# EAGLE library part ISP2064 (library lattice)
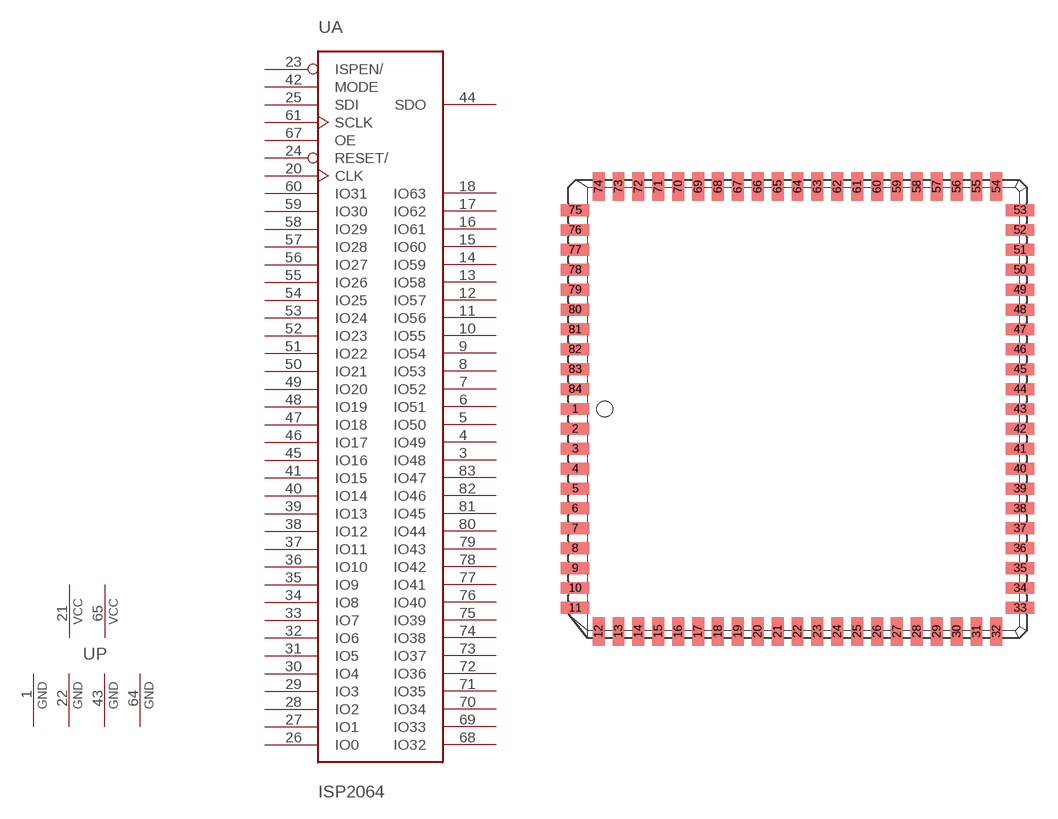
[diagram p2: symbol with the pads of PLCC-84; footprint PLCC-84]

Designator prefix U; gates A=ISP2064 P=2PWR4GND

## ISP2064  [PLCC-84]
1  P:GND  pwr
3  A:IO48
4  A:IO49
5  A:IO50
6  A:IO51
7  A:IO52
8  A:IO53
9  A:IO54
10  A:IO55
11  A:IO56
12  A:IO57
13  A:IO58
14  A:IO59
15  A:IO60
16  A:IO61
17  A:IO62
18  A:IO63
20  A:CLK  in
21  P:VCC  pwr
22  P:GND  pwr
23  A:ISPEN/  in
24  A:RESET/  in
25  A:SDI  in
26  A:IO0
27  A:IO1
28  A:IO2
29  A:IO3
30  A:IO4
31  A:IO5
32  A:IO6
33  A:IO7
34  A:IO8
35  A:IO9
36  A:IO10
37  A:IO11
38  A:IO12
39  A:IO13
40  A:IO14
41  A:IO15
42  A:MODE  in
43  P:GND  pwr
44  A:SDO  out
45  A:IO16
46  A:IO17
47  A:IO18
48  A:IO19
49  A:IO20
50  A:IO21
51  A:IO22
52  A:IO23
53  A:IO24
54  A:IO25
55  A:IO26
56  A:IO27
57  A:IO28
58  A:IO29
59  A:IO30
60  A:IO31
61  A:SCLK  in
64  P:GND  pwr
65  P:VCC  pwr
67  A:OE  in
68  A:IO32
69  A:IO33
70  A:IO34
71  A:IO35
72  A:IO36
73  A:IO37
74  A:IO38
75  A:IO39
76  A:IO40
77  A:IO41
78  A:IO42
79  A:IO43
80  A:IO44
81  A:IO45
82  A:IO46
83  A:IO47

## Footprint PLCC-84 (pad centres in mm)
smd 1.803 x 0.762: 1 -14.199,0; 2 -14.199,-1.27; 3 -14.199,-2.54; 4 -14.199,-3.81; 5 -14.199,-5.08; 6 -14.199,-6.35; 7 -14.199,-7.62; 8 -14.199,-8.89; 9 -14.199,-10.16; 10 -14.199,-11.43; 11 -14.199,-12.7; 33 14.199,-12.7; 34 14.199,-11.43; 35 14.199,-10.16; 36 14.199,-8.89; 37 14.199,-7.62; 38 14.199,-6.35; 39 14.199,-5.08; 40 14.199,-3.81; 41 14.199,-2.54; 42 14.199,-1.27; 43 14.199,0; 44 14.199,1.27; 45 14.199,2.54; 46 14.199,3.81; 47 14.199,5.08; 48 14.199,6.35; 49 14.199,7.62; 50 14.199,8.89; 51 14.199,10.16; 52 14.199,11.43; 53 14.199,12.7; 75 -14.199,12.7; 76 -14.199,11.43; 77 -14.199,10.16; 78 -14.199,8.89; 79 -14.199,7.62; 80 -14.199,6.35; 81 -14.199,5.08; 82 -14.199,3.81; 83 -14.199,2.54; 84 -14.199,1.27
smd 0.762 x 1.803: 12 -12.7,-14.199; 13 -11.43,-14.199; 14 -10.16,-14.199; 15 -8.89,-14.199; 16 -7.62,-14.199; 17 -6.35,-14.199; 18 -5.08,-14.199; 19 -3.81,-14.199; 20 -2.54,-14.199; 21 -1.27,-14.199; 22 0,-14.199; 23 1.27,-14.199; 24 2.54,-14.199; 25 3.81,-14.199; 26 5.08,-14.199; 27 6.35,-14.199; 28 7.62,-14.199; 29 8.89,-14.199; 30 10.16,-14.199; 31 11.43,-14.199; 32 12.7,-14.199; 54 12.7,14.199; 55 11.43,14.199; 56 10.16,14.199; 57 8.89,14.199; 58 7.62,14.199; 59 6.35,14.199; 60 5.08,14.199; 61 3.81,14.199; 62 2.54,14.199; 63 1.27,14.199; 64 0,14.199; 65 -1.27,14.199; 66 -2.54,14.199; 67 -3.81,14.199; 68 -5.08,14.199; 69 -6.35,14.199; 70 -7.62,14.199; 71 -8.89,14.199; 72 -10.16,14.199; 73 -11.43,14.199; 74 -12.7,14.199